# EAGLE library part SPL06-007 (library SPL06-007)
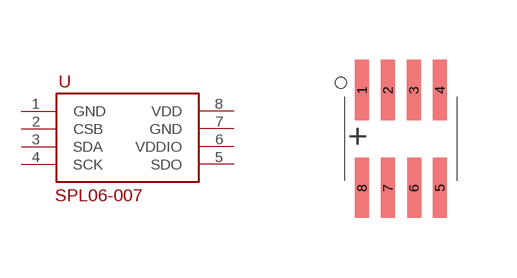
[diagram p0: symbol with the pads of SPL06-007; footprint SPL06-007]

Designator prefix -

## SPL06-007  [SPL06-007]
1  GND
2  CSB
3  SDA
4  SCK
5  SDO
6  VDDIO
7  GND
8  VDD

## Footprint SPL06-007 (pad centres in mm)
smd 0.35 x 1.5: 1 -0.975,1.219; 2 -0.326,1.219; 3 0.322,1.219; 4 0.974,1.219; 5 0.975,-1.227; 6 0.326,-1.227; 7 -0.325,-1.227; 8 -0.975,-1.227